# EAGLE library part LTC3113 (library 477_LIBRARY)
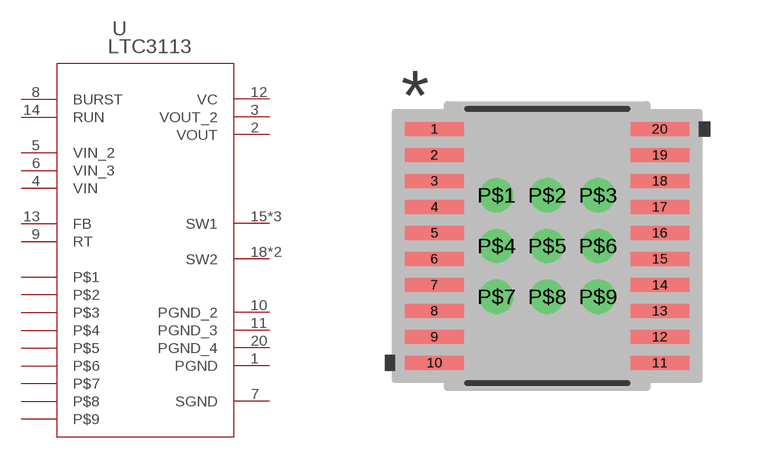
[diagram p2: symbol with the pads of TSSOP-20_FE/CA; footprint TSSOP-20_FE/CA]

Designator prefix -

## LTC3113  [TSSOP-20_FE/CA]
1  PGND  pas
2  VOUT  pas
3  VOUT_2  pas
4  VIN  pas
5  VIN_2  pas
6  VIN_3  pas
7  SGND  pas
8  BURST  pas
9  RT  pas
10  PGND_2  pas
11  PGND_3  pas
12  VC  pas
13  FB  pas
14  RUN  pas
15  SW1  pas
16  SW1  pas
17  SW1  pas
18  SW2  pas
19  SW2  pas
20  PGND_4  pas
P$1  P$1  pas
P$2  P$2  pas
P$3  P$3  pas
P$4  P$4  pas
P$5  P$5  pas
P$6  P$6  pas
P$7  P$7  pas
P$8  P$8  pas
P$9  P$9  pas

## Footprint TSSOP-20_FE/CA (pad centres in mm)
smd 1.473 x 0.356: 1 -2.819,2.926; 2 -2.819,2.276; 3 -2.819,1.626; 4 -2.819,0.975; 5 -2.819,0.325; 6 -2.819,-0.325; 7 -2.819,-0.975; 8 -2.819,-1.626; 9 -2.819,-2.276; 10 -2.819,-2.926; 11 2.819,-2.926; 12 2.819,-2.276; 13 2.819,-1.626; 14 2.819,-0.975; 15 2.819,-0.325; 16 2.819,0.325; 17 2.819,0.975; 18 2.819,1.626; 19 2.819,2.276; 20 2.819,2.926
drill 0.35: P$1 -1.27,1.27; P$2 0,1.27; P$3 1.27,1.27; P$4 -1.27,0; P$5 0,0; P$6 1.27,0; P$7 -1.27,-1.27; P$8 0,-1.27; P$9 1.27,-1.27